# EAGLE library part NJM4556A (library njr)
DUAL HIGH CURRENT OPERATIONAL AMPLIFIER The NJM4556A integrated circuit is a high-gain,high output current dual operational amplifier capable of driving ±70mA into 150Ω loads ( ±10.5V output voltage ),and operating low supply voltage ( V+/V-=±2V~ ). The NJM4556A combines many of the features of the popular NJM4558 as well as having the capability of driving 150Ω loads.In addition,the wide band-width,low noise,high slew rate and low distortion of the NJM4556A make it ideal for many audio,telecommunications and instrumentation applications.
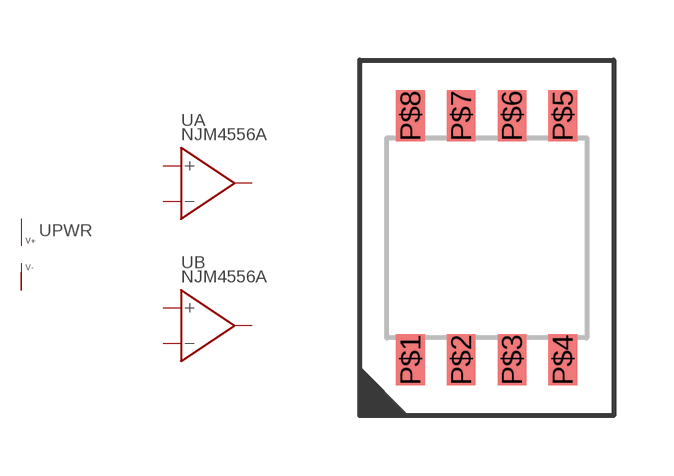
[diagram p0: symbol with the pads of DMP8; footprint DMP8]

Designator prefix U; gates A=OPAMP B=OPAMP PWR=V-+

## NJM4556AM  [DMP8]
P$1  A:OUT  out
P$2  A:-IN  in
P$3  A:+IN  in
P$4  PWR:V-  pwr
P$5  B:+IN  in
P$6  B:-IN  in
P$7  B:OUT  out
P$8  PWR:V+  pwr

## Footprint DMP8 (pad centres in mm)
smd 0.72 x 1.27: P$1 -1.905,-3.05; P$2 -0.635,-3.05; P$3 0.635,-3.05; P$4 1.905,-3.05; P$5 1.905,3.05; P$6 0.635,3.05; P$7 -0.635,3.05; P$8 -1.905,3.05